# Altium footprint library Wurth_Elektronik_Passive_rev16a.PCBLIB: 810 footprints (part 16 of 51)
Each footprint in its own frame and in the unit in brackets; x right, y up, seen from the top. Pads: shape width x height; smd on the part's side, far side on the other; paste and mask are expansions set on the pad; w line width, h text height; cw(c..) or ccw(c..) is an arc to the next point about the centre after c.
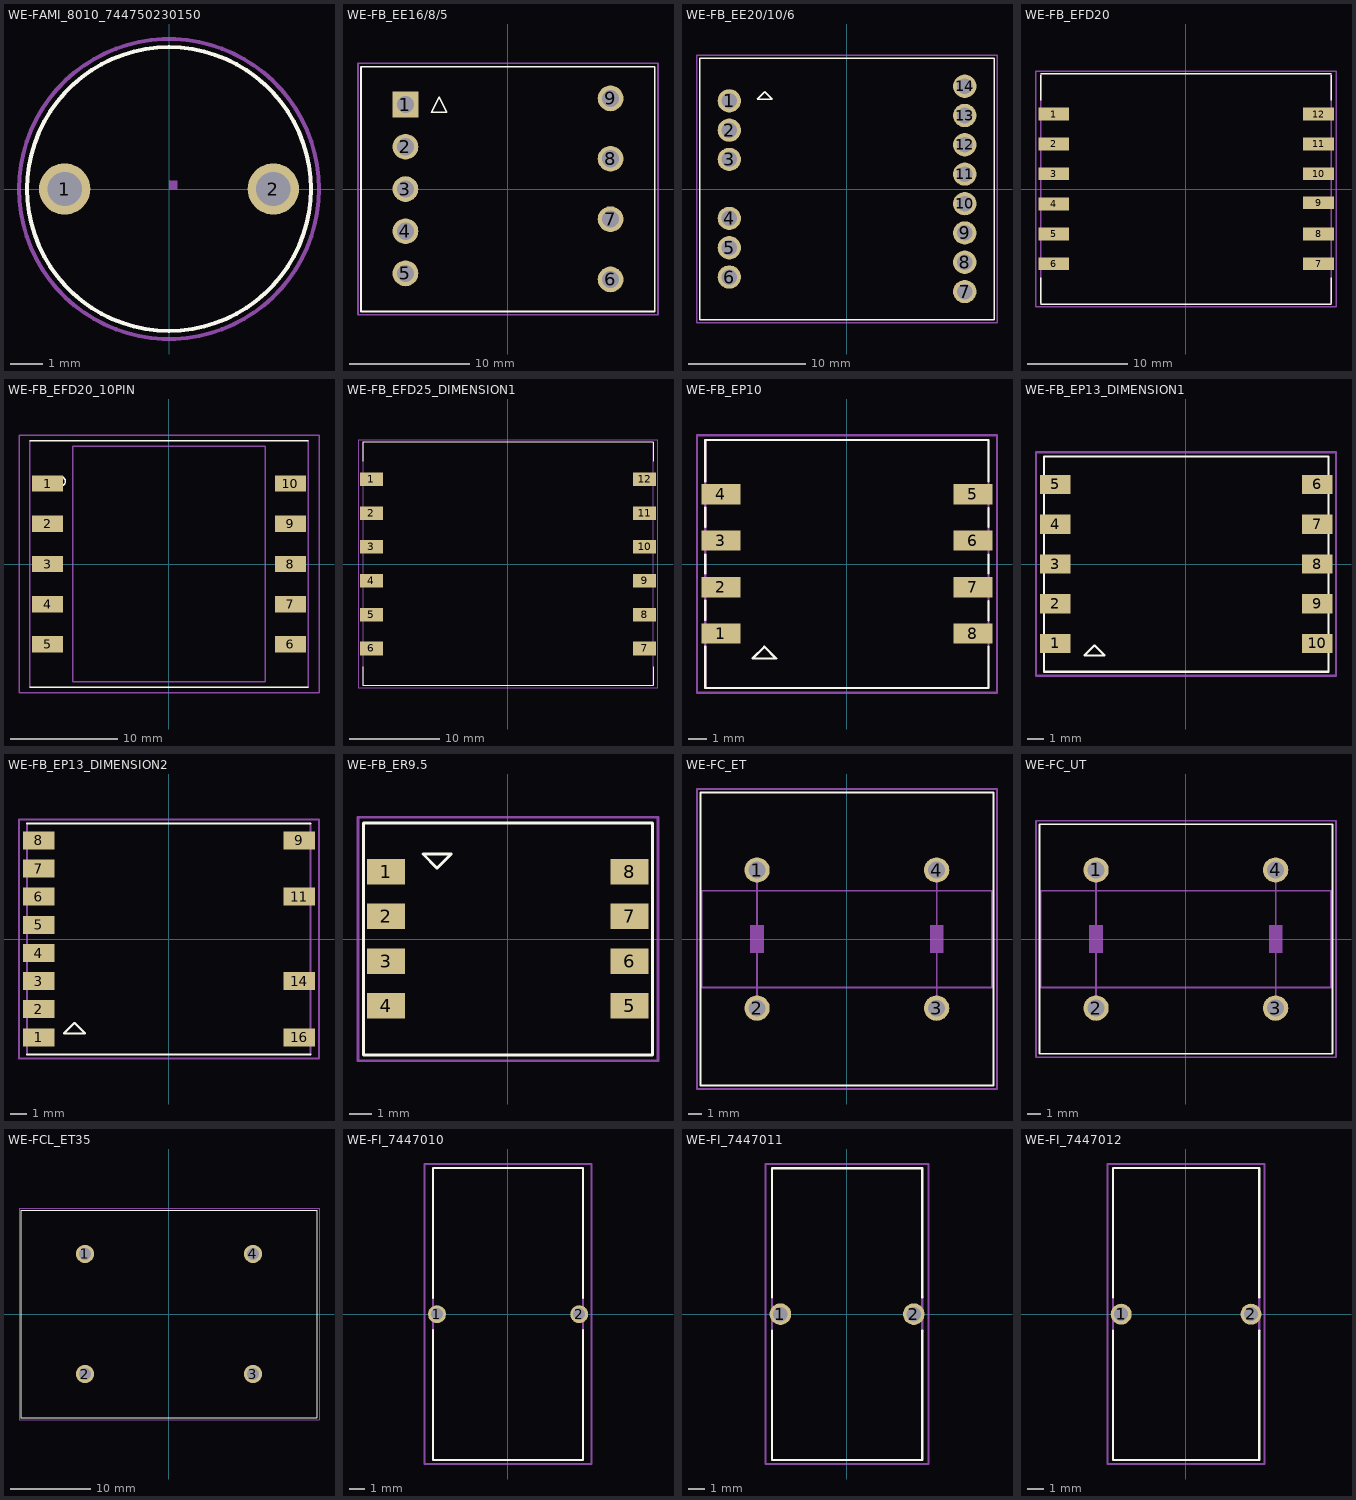
[diagram p15: the footprints below, top view; thin cyan lines are the x and y axes]

## WE-FAMI_8010_744750230150 [mil]
pads (2):
  round 63 hole 42: 1(-127.95,0) 2(128,0)
Top Overlay:
  circle w5: c0,0 r174
Mechanical 2:
  text ">NAME" at -150,250 h77.5
Mechanical 4:
  text ">VALUE" at -150,-300 h77.5
Mechanical 10:
  region: 0,0 10,0 10,10 0,10
Mechanical 27:
  circle w5: c0,0 r184

## WE-FB_EE16/8/5 [mil]
pads (9):
  rect 84x84 hole 56: 1(-334.65,276)
  round 84 hole 56: 2(-334.65,138) 3(-334.65,0) 4(-334.65,-137.8) 5(-334.65,-275.59) 6(335,-295.28) 7(335,-98.43) 8(335,99) 9(335,296)
Top Overlay:
  lines w5: -479.92,-400 -479.92,400 480,400 480,-400 -479.92,-400 ; -250,250 -225,300 -200,250 -250,250
Mechanical 2:
  text ">NAME" at -475,450 h77.5
Mechanical 4:
  text ">VALUE" at -475,-475 h77.5
Mechanical 27:
  lines w5: -489.76,-409.84 -489.76,410 490,410 490,-409.84 -489.76,-409.84

## WE-FB_EE20/10/6 [mil]
pads (14):
  round 78 hole 52: 1(-393.7,295) 2(-393.7,197) 3(-393.7,99) 4(-393.7,-98.43) 5(-393.7,-196.46) 6(-393.7,-294.49) 7(394,-343.11) 8(394,-245.08) 9(394,-147.05) 10(394,-49.02) 11(394,50) 12(394,148) 13(394,246) 14(394,344)
Top Overlay:
  lines w5: -492.13,-437.01 -492.13,438 493,438 493,-437.01 -492.13,-437.01 ; -300,300 -275,325 -250,300 -300,300
Mechanical 2:
  text ">NAME" at -500,475 h77.5
Mechanical 4:
  text ">VALUE" at -500,-525 h77.5
Mechanical 27:
  lines w5: -501.97,-446.85 -501.97,447 502,447 502,-446.85 -501.97,-446.85

## WE-FB_EFD20 [mil]
pads (12):
  rect 121x50 smd: 1(-522.05,296) 2(-522.05,178) 3(-522.05,60) 4(-522.05,-59.06) 5(-522.05,-177.17) 6(-522.05,-295.28) 7(523,-295.28) 8(523,-177.17) 9(523,-54.72) 10(523,60) 11(523,178) 12(523,296)
Top Overlay:
  lines w5: -572.44,-454.92 573,-454.92 ; -572.44,-450 -572.44,-350 ; -572.44,350 -572.44,450 ; -572.44,455 573,455 ; 573,-450 573,-350 ; 573,350 573,450
Mechanical 2:
  text ">NAME" at -600,500 h77.5
Mechanical 4:
  text ">VALUE" at -600,-550 h77.5
Mechanical 16:
  lines w5: -572.44,-454.92 -572.44,455 ; 573,-454.92 573,455
Mechanical 27:
  lines w5: -591.93,-464.76 -591.93,465 592,465 592,-464.76 -591.93,-464.76

## WE-FB_EFD20_10PIN [mil]
pads (10):
  rect 115x60 smd: 1(-446.06,296) 2(-446.06,148) 3(-446.06,0) 4(-446.06,-147.64) 5(-446.06,-295.28) 6(447,-295.28) 7(447,-147.64) 8(447,0) 9(447,148) 10(447,296)
Top Overlay:
  circle w5: c-397.64,304 r17
  lines w5: -511.81,-452.76 512,-452.76 ; -511.81,453 512,453
Mechanical 2:
  text ">NAME" at -492.13,512 h77.5
Mechanical 4:
  text ">VALUE" at -492.13,-551.18 h77.5
Mechanical 10:
  lines w5: -354.33,-433.07 355,-433.07 355,434 -354.33,434 -354.33,-433.07
Mechanical 16:
  lines w5: -511.81,-452.76 -511.81,453 ; 512,-452.76 512,453
Mechanical 27:
  lines w5: -551.18,-472.44 552,-472.44 552,473 -551.18,473 -551.18,-472.44

## WE-FB_EFD25_DIMENSION1 [mil]
pads (12):
  rect 99x60 smd: 1(-598.03,371) 2(-598.03,223) 3(-598.03,75) 4(-598.03,-74.02) 5(-598.03,-222.05) 6(-598.03,-370.08) 7(599,-370.08) 8(599,-222.05) 9(599,-74.02) 10(599,75) 11(599,223) 12(599,371)
Top Overlay:
  lines w5: -636.02,-450 -636.02,-532.09 637,-532.09 637,-450 ; -636.02,450 -636.02,533 637,533 637,450
Mechanical 2:
  text ">NAME" at -650,600 h77.5
Mechanical 4:
  text ">VALUE" at -650,-650 h77.5
Mechanical 16:
  lines w5: -636.02,-532.09 -636.02,533 ; 637,-532.09 637,533
Mechanical 27:
  lines w5: -657.09,-541.93 -657.09,542 658,542 658,-541.93 -657.09,-541.93

## WE-FB_EP10 [mil]
pads (8):
  rect 82x43 smd: 1(-266.93,-147.05) 2(-266.93,-49.02) 3(-266.93,50) 4(-266.93,148) 5(267,148) 6(267,50) 7(267,-49.02) 8(267,-147.05)
Top Overlay:
  lines w5: -300,-175.2 -300,-262.6 300,-262.6 300,-175.2 ; -300,-117.64 -300,-77.64 ; -300,-20 -300,20 ; -300,79 -300,120 ; -300,176 -300,263 300,263 300,176 ; 300,-118.7 300,-78.94 ; 300,-19.88 300,20 ; 300,79 300,119 ; -200,-200 -175,-175 -150,-200 -200,-200
Mechanical 2:
  text ">NAME" at -325,300 h77.5
Mechanical 4:
  text ">VALUE" at -325,-350 h77.5
Mechanical 16:
  lines w5: -300,-262.6 -300,263 300,263 300,-262.6 -300,-262.6
Mechanical 27:
  lines w5: -317.72,-272.44 -317.72,273 318,273 318,-272.44 -317.72,-272.44

## WE-FB_EP13_DIMENSION1 [mil]
pads (10):
  rect 75x47 smd: 1(-322.05,-195.28) 2(-322.05,-97.64) 3(-322.05,0) 4(-322.05,98) 5(-322.05,196) 6(323,196) 7(323,98) 8(323,0) 9(323,-97.64) 10(323,-195.28)
Top Overlay:
  lines w5: -349.41,-264.96 -349.41,265 350,265 350,-264.96 -349.41,-264.96 ; -250,-225 -225,-200 -200,-225 -250,-225
Mechanical 2:
  text ">NAME" at -350,300 h77.5
Mechanical 4:
  text ">VALUE" at -350,-350 h77.5
Mechanical 27:
  lines w5: -368.9,-274.8 -368.9,275 369,275 369,-274.8 -368.9,-274.8

## WE-FB_EP13_DIMENSION2 [mil]
pads (12):
  rect 75x43 smd: 1(-310.43,-234.25) 2(-310.43,-167.32) 3(-310.43,-100.39) 4(-310.43,-33.46) 5(-310.43,34) 6(-310.43,101) 7(-310.43,168) 8(-310.43,235) 9(311,235) 11(311,101) 14(311,-100.39) 16(311,-234.25)
Top Overlay:
  lines w5: -337.99,-275 338,-275 ; -337.99,275 338,275 ; -250,-225 -225,-200 -200,-225 -250,-225
Mechanical 2:
  text ">NAME" at -350,325 h77.5
Mechanical 4:
  text ">VALUE" at -325,-375 h77.5
Mechanical 16:
  lines w5: -337.99,-275 -337.99,275 ; 338,-275 338,275
Mechanical 27:
  lines w5: -357.28,-284.84 -357.28,285 358,285 358,-284.84 -357.28,-284.84

## WE-FB_ER9.5 [mil]
pads (8):
  rect 67x45 smd: 1(-214.96,119) 2(-214.96,40) 3(-214.96,-39.37) 4(-214.96,-118.11) 5(215,-118.11) 6(215,-39.37) 7(215,40) 8(215,119)
Top Overlay:
  lines w5: -254.92,-204.92 -254.92,205 255,205 255,-204.92 -254.92,-204.92 ; -150,150 -100,150 -125,125 -150,150
Mechanical 2:
  text ">NAME" at -275,250 h77.5
Mechanical 4:
  text ">VALUE" at -275,-275 h77.5
Mechanical 27:
  lines w5: -264.76,-214.76 -264.76,215 265,215 265,-214.76 -264.76,-214.76

## WE-FC_ET [mil]
pads (4):
  round 72 hole 48: 1(-255.91,197) 2(-255.91,-196.85) 3(256,-196.85) 4(256,197)
Top Overlay:
  lines w5: -417.32,-417.32 418,-417.32 418,418 -417.32,418 -417.32,-417.32
Mechanical 2:
  text ">NAME" at -401.57,445 h77.5
Mechanical 4:
  text ">VALUE" at -401.57,-500 h77.5
Mechanical 10:
  lines w5: -413.39,-137.8 -413.39,138 414,138 414,-137.8 -413.39,-137.8
Mechanical 16:
  rectangle: -275.59,-39.37 -236.22,40
  rectangle: 237,-39.37 276,40
  lines w5: -255.91,-196.85 -255.91,-39.37 ; -255.91,40 -255.91,197 ; 256,-196.85 256,-39.37 ; 256,40 256,197
Mechanical 27:
  lines w5: -427.17,-427.17 -427.17,428 428,428 428,-427.17 -427.17,-427.17

## WE-FC_UT [mil]
pads (4):
  round 72 hole 48: 1(-255.91,197) 2(-255.91,-196.85) 3(256,-196.85) 4(256,197)
Top Overlay:
  lines w5: -417.32,-326.77 418,-326.77 418,327 -417.32,327 -417.32,-326.77
Mechanical 2:
  text ">NAME" at -413.39,355 h77.5
Mechanical 4:
  text ">VALUE" at -413.39,-393.7 h77.5
Mechanical 10:
  lines w5: -413.39,-137.8 -413.39,138 414,138 414,-137.8 -413.39,-137.8
Mechanical 16:
  rectangle: -275.59,-39.37 -236.22,40
  rectangle: 237,-39.37 276,40
  lines w5: -255.91,-196.85 -255.91,-39.37 ; -255.91,40 -255.91,197 ; 256,-196.85 256,-39.37 ; 256,40 256,197
Mechanical 27:
  lines w5: -427.17,-336.61 -427.17,337 428,337 428,-336.61 -427.17,-336.61

## WE-FCL_ET35 [mil]
pads (4):
  round 90 hole 60: 1(-413.39,296) 2(-413.39,-295.28) 3(414,-295.28) 4(414,296)
Top Overlay:
  lines w5: -728.35,-511.81 -728.35,512 729,512 729,-511.81 -728.35,-511.81
Mechanical 2:
  text ">NAME" at -700,550 h77.5
Mechanical 4:
  text ">VALUE" at -700,-600 h77.5
Mechanical 27:
  lines w5: -738.19,-521.65 -738.19,522 739,522 739,-521.65 -738.19,-521.65

## WE-FI_7447010 [mil]
pads (2):
  round 45 hole 30: 1(-177.17,0) 2(178,0)
Top Overlay:
  lines w5: -187.01,-39.37 -187.01,-364.17 188,-364.17 188,-39.37 ; -187.01,40 -187.01,365 188,365 188,40
Mechanical 2:
  text ">NAME" at -187.01,375 h77.5
Mechanical 4:
  text ">VALUE" at -187.01,-424.02 h77.5
Mechanical 16:
  lines w5: -187.01,-39.37 -187.01,40 ; 188,-39.37 188,40
Mechanical 27:
  lines w5: -208.66,-374.02 -208.66,375 209,375 209,-374.02 -208.66,-374.02

## WE-FI_7447011 [mil]
pads (2):
  round 51 hole 34: 1(-157.48,0) 2(158,0)
Top Overlay:
  lines w5: -177.17,-39.37 -177.17,-344.49 178,-344.49 178,-39.37 ; -177.17,40 -177.17,345 178,345 178,40
Mechanical 2:
  text ">NAME" at -177.17,355 h77.5
Mechanical 4:
  text ">VALUE" at -177.17,-404.33 h77.5
Mechanical 16:
  lines w5: -177.17,-39.37 -177.17,40 ; 178,-39.37 178,40
Mechanical 27:
  lines w5: -192.91,-354.33 -192.91,355 193,355 193,-354.33 -192.91,-354.33

## WE-FI_7447012 [mil]
pads (2):
  round 51 hole 34: 1(-157.48,0) 2(158,0)
Top Overlay:
  lines w5: -177.17,-39.37 -177.17,-354.33 178,-354.33 178,-39.37 ; -177.17,40 -177.17,355 178,355 178,40
Mechanical 2:
  text ">NAME" at -177.17,365 h77.5
Mechanical 4:
  text ">VALUE" at -177.17,-414.17 h77.5
Mechanical 16:
  lines w5: -177.17,-39.37 -177.17,40 ; 178,-39.37 178,40
Mechanical 27:
  lines w5: -190.94,-364.17 -190.94,365 191,365 191,-364.17 -190.94,-364.17